# Altium schematic symbol library Header 1.Schlib: 1 symbol
Pins are listed as number, name and electrical type; pins without a type are passive.

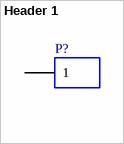
[diagram p0: symbol Header 1]

## Header 1
designator P?
Header, 2-Pin
pins: 1